# Altium schematic symbol library SW_NO_Tactile.SchLib: 1 symbol
Pins are listed as number, name and electrical type; pins without a type are passive.

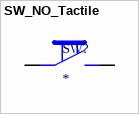
[diagram p0: symbol SW_NO_Tactile]

## SW_NO_Tactile
designator SW?
pins: 1, 2